# EAGLE library part 62001011622 (library Wuerth_Elektronik_eiCan_Wire_to_Board_Connectors)
WR-WTB 2.00mm Male Vertical Shrouded Header, 10 Pins=>Code : Con_WTB_2.00_PCB_THT_62001011622 <http://katalog.we-online.de/media/thumbs2/eican/thb_Con_WTB_2.00_PCB_THT_6200xx11622_pf2.jpg> Details see: http://katalog.we-online.de/en/em/620_0xx_116_22 Created 2014-06-05, Karrer Zheng 2014 (C) Würth Elektronik
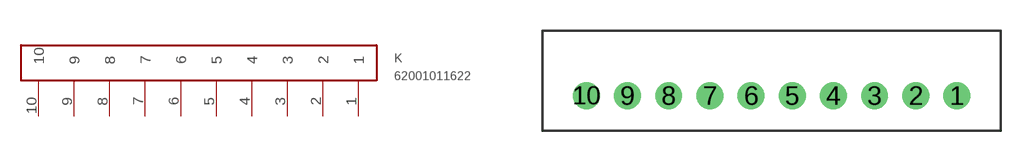
[diagram p29: symbol with the pads of 62001011622; footprint 62001011622]

Designator prefix K

## 62001011622  [62001011622]
1  1
2  2
3  3
4  4
5  5
6  6
7  7
8  8
9  9
10  10

## Footprint 62001011622 (pad centres in mm)
WR-WTB 2.00mm Male Vertical Shrouded Header, 10 Pins
drill 0.8: 1 1,0; 2 -1,0; 3 -3,0; 4 -5,0; 5 -7,0; 6 -9,0; 7 -11,0; 8 -13,0; 9 -15,0; 10 -17,0